# EAGLE library part SWITCH_DPDT_PUSH_LED (library bao17)
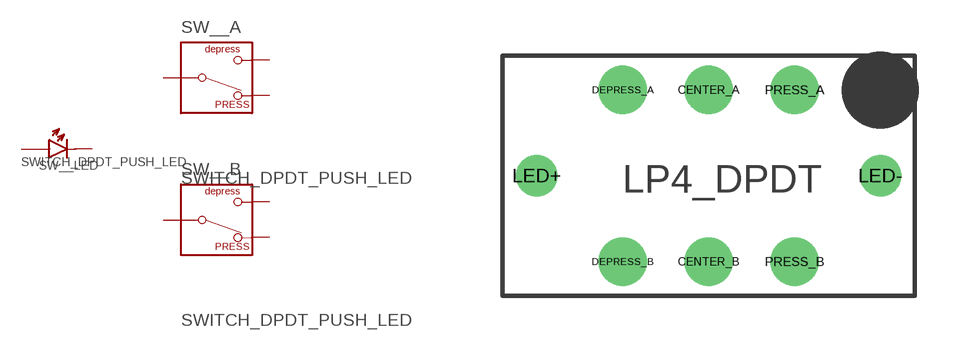
[diagram p14: symbol with the pads of SWITCH_LP4_DPDT_VERT; footprint SWITCH_LP4_DPDT_VERT]

Designator prefix SW_; gates _A=SWITCH_SPDT_PRESS-DEPRESS _B=SWITCH_SPDT_PRESS-DEPRESS _LED=LED

## SWITCH_DPDT_PUSH_LED_LP4_YELLOW (NHPREF: 34; POPULATE: TRUE; VALUE: yellow)  [SWITCH_LP4_DPDT_VERT]
CENTER_A  _A:C
CENTER_B  _B:C
DEPRESS_A  _A:DEPRESS
DEPRESS_B  _B:DEPRESS
LED+  _LED:+
LED-  _LED:-
PRESS_A  _A:PRESS
PRESS_B  _B:PRESS

## SWITCH_DPDT_PUSH_LED_LP4_RED (NHPREF: 33; POPULATE: TRUE; VALUE: red)  [SWITCH_LP4_DPDT_VERT]
Pads as for SWITCH_LP4_DPDT_VERT

## Footprint SWITCH_LP4_DPDT_VERT (pad centres in mm)
drill 0.9: CENTER_A 0,2.5; CENTER_B 0,-2.5; DEPRESS_A -2.5,2.5; DEPRESS_B -2.5,-2.5; PRESS_A 2.5,2.5; PRESS_B 2.5,-2.5
drill 0.7: LED+ -5,0; LED- 5,0